# Altium schematic symbol library MMC5983MA.SchLib: 2 symbols
Pins are listed as number, name and electrical type; pins without a type are passive.

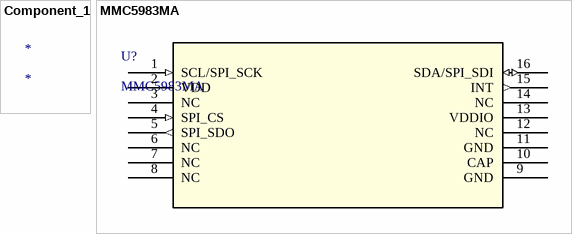
[diagram p0: symbols Component_1 to MMC5983MA]

## Component_1
designator *

## MMC5983MA
designator U?
No Description Available; Manufacturer_Name: Memsic; Copyright: Copyright (C) 2025 Ultra Librarian. All rights reserved.; Manufacturer_Part_Number: MMC5983MA; RefDes: RefDes; Type: Type
footprint MMC5983MA_MEM
pins: 1 SCL/SPI_SCK (in), 2 VDD (power), 3 NC, 4 SPI_CS (in), 5 SPI_SDO (out), 6 NC, 7 NC, 8 NC, 9 GND (power), 10 CAP (power), 11 GND (power), 12 NC, 13 VDDIO (power), 14 NC, 15 INT (out), 16 SDA/SPI_SDI (io)